# EAGLE library part 2X10 (library headers(.1in)(samtec))
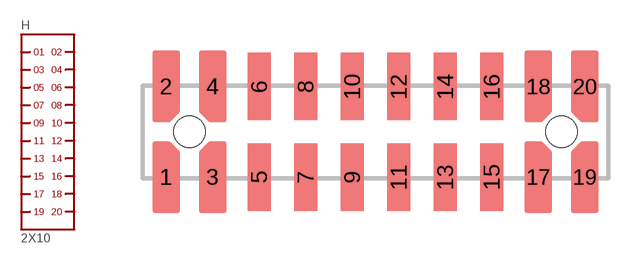
[diagram p6: symbol with the pads of TSM-110-XX-XXX-DV-A; footprint TSM-110-XX-XXX-DV-A]

Designator prefix H

## 2X10.TSM-D-A  [TSM-110-XX-XXX-DV-A]
1  1
2  2
3  3
4  4
5  5
6  6
7  7
8  8
9  9
10  10
11  11
12  12
13  13
14  14
15  15
16  16
17  17
18  18
19  19
20  20

## Footprint TSM-110-XX-XXX-DV-A (pad centres in mm)
Terminal Strip, Dual Row Vertical, Surface Mount, 0.100 inch Pitch, 20Pins
smd 1.27 x 1.27: 1 -11.43,-2.477; 2 -11.43,2.477; 3 -8.89,-2.477; 4 -8.89,2.477; 17 8.89,-2.477; 18 8.89,2.477; 19 11.43,-2.477; 20 11.43,2.477
smd 1.27 x 3.683: 5 -6.35,-2.477; 6 -6.35,2.477; 7 -3.81,-2.477; 8 -3.81,2.477; 9 -1.27,-2.477; 10 -1.27,2.477; 11 1.27,-2.477; 12 1.27,2.477; 13 3.81,-2.477; 14 3.81,2.477; 15 6.35,-2.477; 16 6.35,2.477
hole 1.727 at -10.16,0
hole 1.727 at 10.16,0